# EAGLE library part LT1946EMS8 (library wheat)
BOOST REG, LT1946, MSOP8
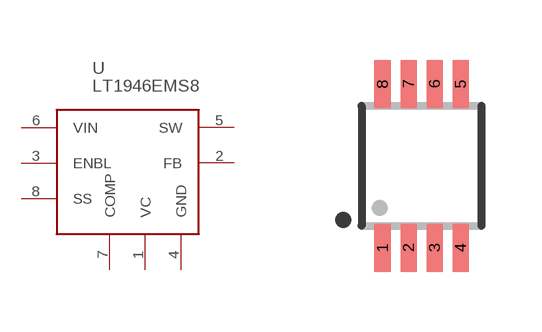
[diagram p59: symbol with the pads of MSOP8; footprint MSOP8]

Designator prefix U

## LT1946EMS8  [MSOP8]
1  VC  pas
2  FB  in
3  ENBL  in
4  GND  pwr
5  SW  oc
6  VIN  pwr
7  COMP  pas
8  SS  pas

## Footprint MSOP8 (pad centres in mm)
MSOP8
smd 0.4 x 1.2: 1 0.295,-2.05; 2 0.945,-2.05; 3 1.595,-2.05; 4 2.245,-2.05; 5 2.245,2.05; 6 1.595,2.05; 7 0.945,2.05; 8 0.295,2.05